# Altium footprint library 1734366-1-Footprint-1.PcbLib: 1 footprints
Each footprint in its own frame and in the unit in brackets; x right, y up, seen from the top. Pads: shape width x height; smd on the part's side, far side on the other; paste and mask are expansions set on the pad; w line width, h text height; cw(c..) or ccw(c..) is an arc to the next point about the centre after c.
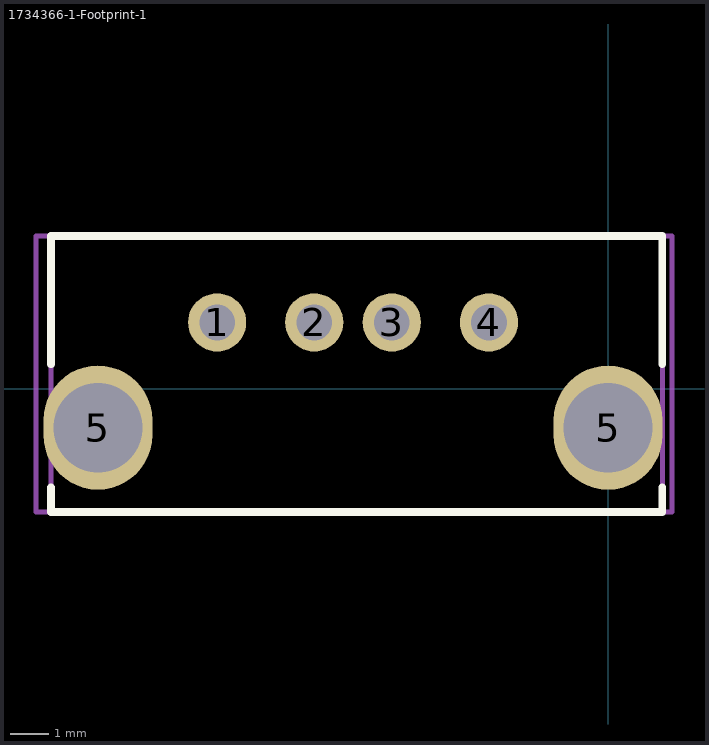
[diagram p0: the footprint, top view; thin cyan lines are the x and y axes]

## 1734366-1-Footprint-1 [mm]
pads (6):
  round 1.5 hole 0.92: 1(-10.07,1.71) 2(-7.57,1.71) 3(-5.57,1.71) 4(-3.07,1.71)
  oval 2.8x3.2 hole 2.3: 5(-13.14,-1) 5(0,-1)
Top Overlay:
  lines w0.2: -14.351,-2.54 -14.351,-3.175 1.397,-3.175 1.397,-2.54 ; -14.351,0.635 -14.351,3.937 1.397,3.937 1.397,0.635
Mechanical 13:
  lines w0.127: -14.351,-3.175 -14.351,3.937 1.397,3.937 1.397,-3.175 -14.351,-3.175
Mechanical 15:
  lines w0.127: -14.732,-3.175 1.651,-3.175 1.651,3.937 -14.732,3.937 -14.732,-3.175
Mechanical 17:
  text "'.Designator'" at -12.065,-0.889 h1
3D body "c-1734366-1-c1-3d.stp": height 15, standoff -3.93, extent -14.376,-3.179 1.423,3.941